# EAGLE library part KF141R-4PIN (library diy_connector)
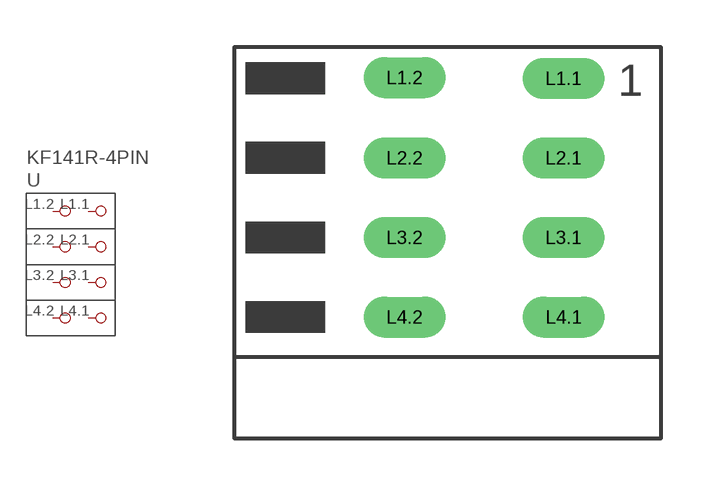
[diagram p1: symbol with the pads of KF141R-4PIN; footprint KF141R-4PIN]

Designator prefix -

## KF141R-4PIN  [KF141R-4PIN]
L1.1  P1.1
L1.2  P1.2
L2.1  P2.1
L2.2  P2.2
L3.1  P3.1
L3.2  P3.2
L4.1  P4.1
L4.2  P4.2

## Footprint KF141R-4PIN (pad centres in mm)
drill 0.8 long: L1.1 0,0; L1.2 -5.08,0.024; L2.1 0,-2.54; L2.2 -5.08,-2.54; L3.1 0,-5.08; L3.2 -5.08,-5.08; L4.1 0.009,-7.62; L4.2 -5.08,-7.62